# Altium schematic symbol library PPTC081LFBN-RC.SchLib: 2 symbols
Pins are listed as number, name and electrical type; pins without a type are passive.

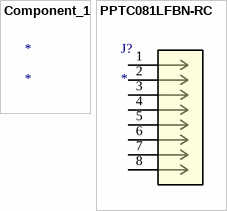
[diagram p0: symbols Component_1 to PPTC081LFBN-RC]

## Component_1
designator *

## PPTC081LFBN-RC
designator J?
No Description Available; Mfr_Name: Sullins; RefDes: RefDes; Type: Type
footprint CONN_PPTC081LFBN-RC_SUL
pins: 1, 2, 3, 4, 5, 6, 7, 8